# EAGLE library part RKJXV1224005 (library RKJXV1224005)
Plugin,13x13mm Multi-Directional Switches ROHS, Rotary Potentiometer, 10 kOhm, 1Turn, 12.5 mW Source: Datasheet <https://tech.alpsalpine.com/e/products/detail/RKJXV1224005/>
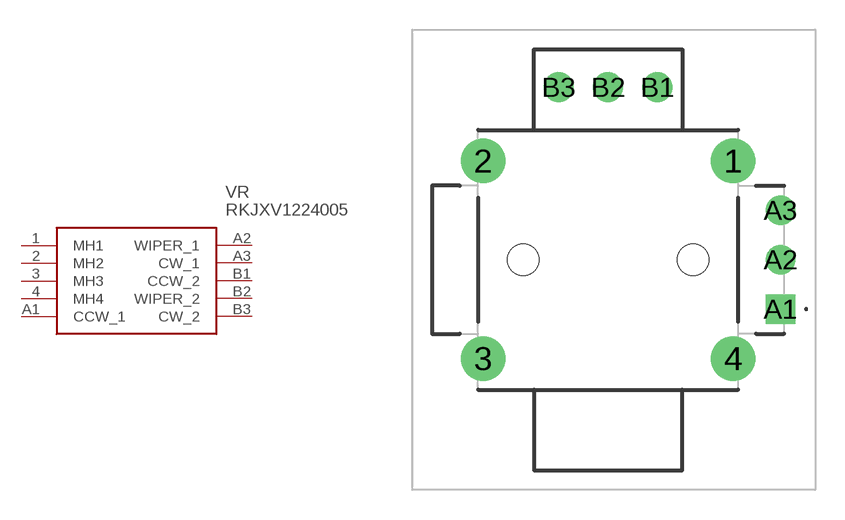
[diagram p0: symbol with the pads of RKJXV1224005; footprint RKJXV1224005]

Designator prefix VR

## RKJXV1224005 (Description: Plugin,13x13mm Multi-Directional Switches ROHS, Rotary Potentiometer, 10 kOhm, 1Turn, 12.5 mW; Height: 18.95mm; Manufacturer_Name: ALPS Electric; Manufacturer_Part_Number: RKJXV1224005; Mouser_Part_Number: 688-RKJXV1224005; Mouser_Price-Stock: https://www.mouser.co.uk/ProductDetail/Alps-Alpine/RKJXV1224005?qs=RiQAlOPxzzAqLSX9lUzx8Q%3D%3D)  [RKJXV1224005]
1  MH1
2  MH2
3  MH3
4  MH4
A1  CCW_1
A2  WIPER_1
A3  CW_1
B1  CCW_2
B2  WIPER_2
B3  CW_2

## Footprint RKJXV1224005 (pad centres in mm)
RKJXV1224005-2
drill 1.5 pad 2.25: 1 -2.405,7.5; 2 -15.055,7.5; 3 -15.055,-2.5; 4 -2.405,-2.5
drill 1 pad 1.5 square: A1 0,0
drill 1 pad 1.5: A2 0,2.5; A3 0,5; B1 -6.23,11.23; B2 -8.73,11.23; B3 -11.23,11.23
hole 1.6 at -4.43,2.5
hole 1.6 at -13.03,2.5